# Altium footprint library Secret.PcbLib: 2 footprints
Each footprint in its own frame and in the unit in brackets; x right, y up, seen from the top. Pads: shape width x height; smd on the part's side, far side on the other; paste and mask are expansions set on the pad; w line width, h text height; cw(c..) or ccw(c..) is an arc to the next point about the centre after c.
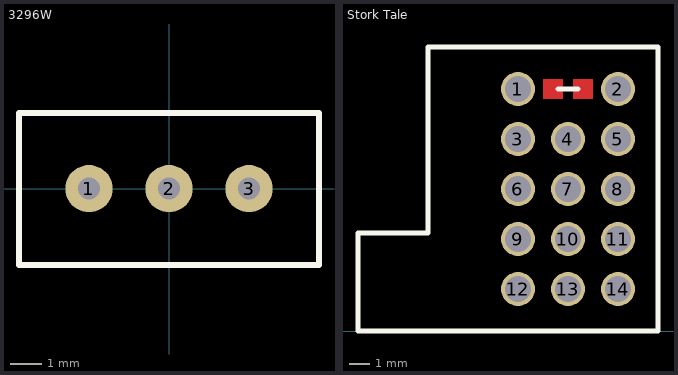
[diagram p0: the footprints below, top view; thin cyan lines are the x and y axes]

## 3296W [mm]
pads (3):
  round 1.5 hole 0.7 unplated mask+0.102: 1(-2.54,0) 2(0,0) 3(2.54,0)
Top Overlay:
  lines w0.2: -4.762,-2.425 4.762,-2.425 4.762,2.401 -4.762,2.401 -4.762,-2.425
3D body "3296W.stp": height 11.52, standoff -6.43, extent -4.762,-2.425 4.762,2.401

## Stork Tale [mm]
pads (14):
  round 1.7 hole 1.3: 1(10.5,12.1) 2(15.5,12.1) 3(10.5,9.6) 4(13,9.6) 5(15.5,9.6) 6(10.5,7.1) 7(13,7.1) 8(15.5,7.1) 9(10.5,4.6) 10(13,4.6) 11(15.5,4.6) 12(10.5,2.1) 13(13,2.1) 14(15.5,2.1)
Top Layer:
  rectangle: 11.75,11.6 12.75,12.6
  rectangle: 13.25,11.6 14.25,12.6
Top Overlay:
  lines w0.254: 12.5,12.1 13.5,12.1 ; 2.5,0 17.5,0 17.5,14.2 6,14.2 6,4.9 2.5,4.9 2.5,0